# EAGLE library part SD-101-00708-64-ND-V3 (library Nwazet.Go)
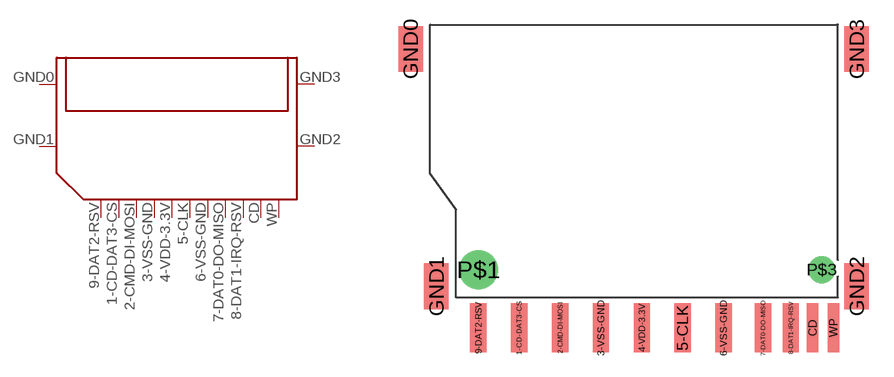
[diagram p0: symbol with the pads of SMD-SD-SOCKET; footprint SMD-SD-SOCKET]

Designator prefix -

## SD-101-00708-64-ND-V3  [SMD-SD-SOCKET]
1-CD-DAT3-CS  P$1
2-CMD-DI-MOSI  P$2
3-VSS-GND  P$3  pas
4-VDD-3.3V  P$4  pwr
5-CLK  P$5
6-VSS-GND  P$6  pas
7-DAT0-DO-MISO  P$7
8-DAT1-IRQ-RSV  P$8
9-DAT2-RSV  P$9
CD  CD  pas
GND0  GND-0  pas
GND1  GND-1  pas
GND2  GND-2  pas
GND3  GND-3  pas
WP  WP  pas

## Footprint SMD-SD-SOCKET (pad centres in mm)
smd 1 x 3: 1-CD-DAT3-CS -7,-3.55; 2-CMD-DI-MOSI -4.5,-3.55; 3-VSS-GND -2,-3.55; 4-VDD-3.3V 0.5,-3.55; 5-CLK 3,-3.55; 6-VSS-GND 5.5,-3.55; 7-DAT0-DO-MISO 7.92,-3.55; 8-DAT1-IRQ-RSV 9.62,-3.55; 9-DAT2-RSV -9.5,-3.55
smd 0.7 x 3: CD 10.96,-3.55; WP 12.23,-3.55
smd 1.5 x 2.8: GND0 -13.65,13.5; GND1 -12.07,-1; GND2 13.65,-1; GND3 13.65,13.5
drill 1.6 pad 1.67: P$1 -9.5,0
drill 1.1 pad 1.27: P$3 11.5,0